# EAGLE library part SAMTEC-TSM-103-01-X-DH (library SAMTEC-TSM-103-01-X-DH)
Check prices <https://pricing.snapeda.com/parts/TSM-103-01-F-DH/Samtec%20Inc./view-part?ref=eda>
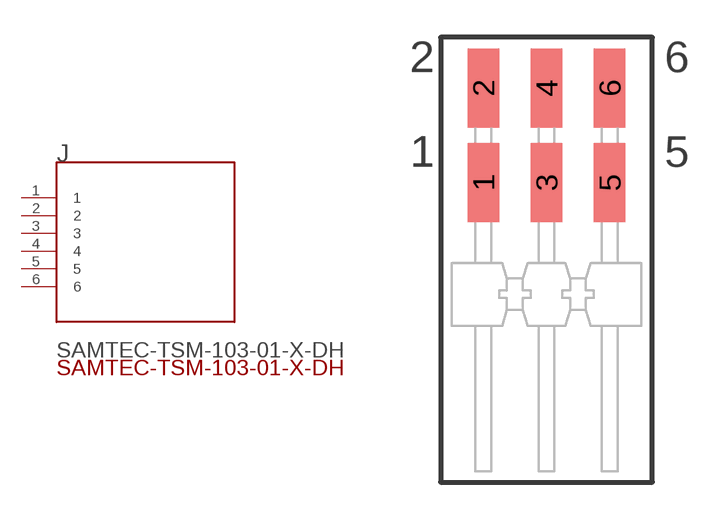
[diagram p0: symbol with the pads of SAMTEC-TSM-103-01-X-DH; footprint SAMTEC-TSM-103-01-X-DH]

Designator prefix J

## SAMTEC-TSM-103-01-X-DHJ (AVAILABILITY: Bad; DESCRIPTION: Connector Header Surface Mount, Right Angle 6 position 0.100 (2.54mm); MF: Samtec Inc.; MP: TSM-103-01-F-DH; PACKAGE: None; PRICE: None; PURCHASE-URL: https://pricing.snapeda.com/search/part/TSM-103-01-F-DH/?ref=eda)  [SAMTEC-TSM-103-01-X-DH]
1  1
2  2
3  3
4  4
5  5
6  6

## Footprint SAMTEC-TSM-103-01-X-DH (pad centres in mm)
translated Allegro footprint
smd 1.27 x 3.18: 1 -2.54,4.496; 2 -2.54,8.306; 3 0,4.496; 4 0,8.306; 5 2.54,4.496; 6 2.54,8.306